# EAGLE library part TP4056BRK (library AQS)
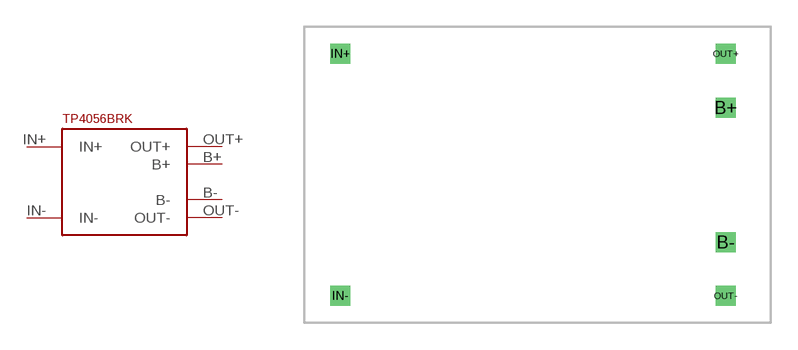
[diagram p1: symbol with the pads of TP4056BRK; footprint TP4056BRK]

Designator prefix -

## TP4056BRK  [TP4056BRK]
B+  B+  pwr
B-  B-  pwr
IN+  IN+  pwr
IN-  IN-  pwr
OUT+  OUT+  pwr
OUT-  OUT-  pwr

## Footprint TP4056BRK (pad centres in mm)
drill 0.6 square: B+ 10.5,3.5; B- 10.5,-4; IN+ -11,6.5; IN- -11,-7; OUT+ 10.5,6.5; OUT- 10.5,-7